# Altium schematic symbol library 2125201006.SchLib: 1 symbol
Pins are listed as number, name and electrical type; pins without a type are passive.

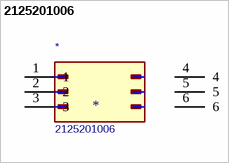
[diagram p0: symbol 2125201006]

## 2125201006
designator *  value 2125201006
\n                        \n                            MINI-FIT MAX 6 CIRCUIT HDR VERT | Molex Incorporated 212520-1006\n                        \n; Footprint: 2125201006:MOLEX_2125201006; DigiKey_Part_Number: 900-2125201006-ND; SnapEDA_Link: https://www.snapeda.com/parts/212520-1006/Molex/view-part/?ref=snap; MAXIMUM_PACKAGE_HEIGHT: 13.60mm; Package: None; Check_prices: https://www.snapeda.com/parts/212520-1006/Molex/view-part/?ref=eda; STANDARD: Manufacturer Recommendations; PARTREV: B1; MF: Molex; MP: 212520-1006; Description_: \n                        \n                            MINI-FIT MAX 6 CIRCUIT HDR VERT | Molex Incorporated 212520-1006\n                        \n; MANUFACTURER: Molex
footprint MOLEX_2125201006
pins: 1, 2, 3, 4, 5, 6